# Altium integrated library resistor array 2.IntLib: 1 symbol
Pins are listed as number, name and electrical type; pins without a type are passive.

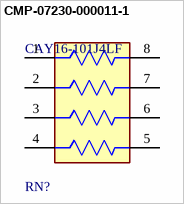
[diagram p0: symbol CMP-07230-000011-1]

## CMP-07230-000011-1
designator RN?, comment CAY16-101J4LF
RES ARRAY 4 RES 100 OHM 1206; Number of Terminals/Pins: 8; Number of Circuits: 4; Tolerance: 5%; Temperature Coefficient: 200ppm/°C; Power Rating: 248mW; Resistance: 100R; Power Per Element: 62.5mW; Circuit Type: Isolated; Voltage Rating (DC): 50V; Termination: Convex; REACH SVHC: No SVHC; Military Standard: Not; Series: CAY16; Length: 3.2mm; Height: 0.024inch; Mount: Surface Mount; Technology: THICK FILM; Max Operating Temperature: 125°C; Number of Pins: 8; Packaging: Tape and Reel; Min Operating Temperature: -55°C; Terminal Pitch: 0.8mm; Resistance Tolerance: 5%; Number of Elements: 4; Depth: 1.6mm; Case Code (Metric): 3216; Package Quantity: 5000; Case Code (Imperial): 1206; Width: 0.063inch; Case/Package: 1206; Contact Plating: Tin; Voltage Rating: 50V; Radiation Hardening: No; Number of Resistors: 4
footprint FP-CAY16-J4-MFG
pins: 1, 2, 3, 4, 5, 6, 7, 8